# Altium schematic symbol library IC_Maxim_Electronics_MAX395CAG+T_eec.SchLib: 1 symbol
Pins are listed as number, name and electrical type; pins without a type are passive.

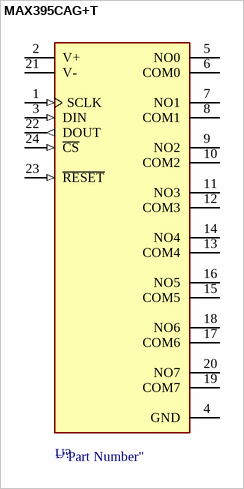
[diagram p0: symbol MAX395CAG+T]

## MAX395CAG+T
designator U?  (value not drawn)
pins: 1 SCLK (in), 2 V+ (power), 3 DIN (in), 4 GND (power), 5 NO0, 6 COM0, 7 NO1, 8 COM1, 9 NO2, 10 COM2, 11 NO3, 12 COM3, 13 COM4, 14 NO4, 15 COM5, 16 NO5, 17 COM6, 18 NO6, 19 COM7, 20 NO7, 21 V- (power), 22 DOUT (out), 23 ~{RESET} (in), 24 ~{CS} (in)